# Altium footprint library Power_Part_V1.0.PcbLib: 3 footprints
Each footprint in its own frame and in the unit in brackets; x right, y up, seen from the top. Pads: shape width x height; smd on the part's side, far side on the other; paste and mask are expansions set on the pad; w line width, h text height; cw(c..) or ccw(c..) is an arc to the next point about the centre after c.
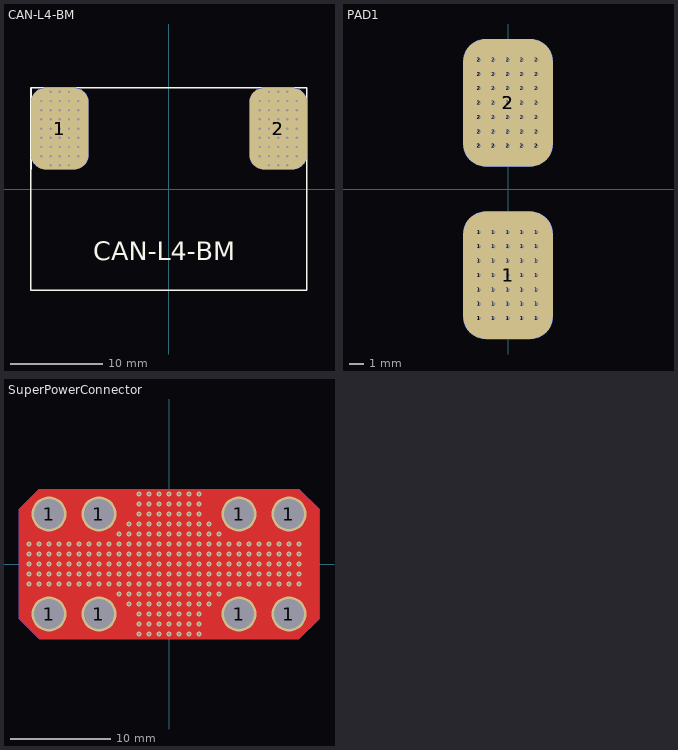
[diagram p0: the footprints below, top view; thin cyan lines are the x and y axes]

## CAN-L4-BM [mil]
pads (124):
  round 20 hole 10: 1(-545.91,140.35) 1(-545.91,140.35) 1(-545.91,140.35) 1(-545.91,140.35) 1(-545.91,179.72) 1(-545.91,179.72) 1(-545.91,219.09) 1(-545.91,219.09) 1(-545.91,258.46) 1(-545.91,258.46) 1(-545.91,297.83) 1(-545.91,297.83) 1(-545.91,337.2) 1(-545.91,337.2) 1(-545.91,376.57) 1(-545.91,376.57) 1(-506.54,100.98) 1(-506.54,100.98) 1(-506.54,140.35) 1(-506.54,140.35) 1(-506.54,179.72) 1(-506.54,219.09) 1(-506.54,258.46) 1(-506.54,297.83) 1(-506.54,337.2) 1(-506.54,376.57) 1(-506.54,415.94) 1(-506.54,415.94) 1(-467.17,100.98) 1(-467.17,100.98) 1(-467.17,140.35) 1(-467.17,140.35) 1(-467.17,179.72) 1(-467.17,219.09) 1(-467.17,258.46) 1(-467.17,297.83) 1(-467.17,337.2) 1(-467.17,376.57) 1(-467.17,415.94) 1(-467.17,415.94) 1(-427.8,100.98) 1(-427.8,100.98) 1(-427.8,140.35) 1(-427.8,140.35) 1(-427.8,179.72) 1(-427.8,219.09) 1(-427.8,258.46) 1(-427.8,297.83) 1(-427.8,337.2) 1(-427.8,376.57) 1(-427.8,415.94) 1(-427.8,415.94) 1(-388.43,140.35) 1(-388.43,140.35) 1(-388.43,179.72) 1(-388.43,219.09) 1(-388.43,258.46) 1(-388.43,297.83) 1(-388.43,337.2) 1(-388.43,376.57) 2(388.98,140.35) 2(388.98,140.35) 2(388.98,140.35) 2(388.98,140.35) 2(388.98,179.72) 2(388.98,179.72) 2(388.98,219.09) 2(388.98,219.09) 2(388.98,258.46) 2(388.98,258.46) 2(388.98,297.83) 2(388.98,297.83) 2(388.98,337.2) 2(388.98,337.2) 2(388.98,376.57) 2(388.98,376.57) 2(428.35,100.98) 2(428.35,100.98) 2(428.35,140.35) 2(428.35,140.35) 2(428.35,179.72) 2(428.35,219.09) 2(428.35,258.46) 2(428.35,297.83) 2(428.35,337.2) 2(428.35,376.57) 2(428.35,415.94) 2(428.35,415.94) 2(467.72,100.98) 2(467.72,100.98) 2(467.72,140.35) 2(467.72,140.35) 2(467.72,179.72) 2(467.72,219.09) 2(467.72,258.46) 2(467.72,297.83) 2(467.72,337.2) 2(467.72,376.57) 2(467.72,415.94) 2(467.72,415.94) 2(507.09,100.98) 2(507.09,100.98) 2(507.09,140.35) 2(507.09,140.35) 2(507.09,179.72) 2(507.09,219.09) 2(507.09,258.46) 2(507.09,297.83) 2(507.09,337.2) 2(507.09,376.57) 2(507.09,415.94) 2(507.09,415.94) 2(546.46,140.35) 2(546.46,140.35) 2(546.46,179.72) 2(546.46,219.09) 2(546.46,258.46) 2(546.46,297.83) 2(546.46,337.2) 2(546.46,376.57)
  rrect50% 245.67x349.21 smd: 1(-467.17,258.46) 2(467.72,258.46)
  rrect50% 245.67x349.21 smd far side: 1(-467.17,258.46) 2(467.72,258.46)
Top Overlay:
  lines w6: -590,83.86 -590,433.07 ; -344.33,433.07 -590,433.07 ; -590.55,433.07 -590,433.07 ; -590.55,433.07 -590.55,-433.07 590.55,-433.07 590.55,433.07 -590.55,433.07
  text "CAN-L4-BM" at -325,-305 h80

## PAD1 [mil]
pads (100):
  round 20 hole 10: 1(-78.74,-354.33) 1(-78.74,-354.33) 1(-78.74,-354.33) 1(-78.74,-354.33) 1(-78.74,-314.96) 1(-78.74,-314.96) 1(-78.74,-275.59) 1(-78.74,-275.59) 1(-78.74,-236.22) 1(-78.74,-236.22) 1(-78.74,-196.85) 1(-78.74,-196.85) 1(-78.74,-157.48) 1(-78.74,-157.48) 1(-78.74,-118.11) 1(-78.74,-118.11) 1(-39.37,-354.33) 1(-39.37,-354.33) 1(-39.37,-314.96) 1(-39.37,-275.59) 1(-39.37,-236.22) 1(-39.37,-196.85) 1(-39.37,-157.48) 1(-39.37,-118.11) 1(0,-354.33) 1(0,-354.33) 1(0,-314.96) 1(0,-275.59) 1(0,-236.22) 1(0,-196.85) 1(0,-157.48) 1(0,-118.11) 1(39.37,-354.33) 1(39.37,-354.33) 1(39.37,-314.96) 1(39.37,-275.59) 1(39.37,-236.22) 1(39.37,-196.85) 1(39.37,-157.48) 1(39.37,-118.11) 1(78.74,-354.33) 1(78.74,-354.33) 1(78.74,-314.96) 1(78.74,-275.59) 1(78.74,-236.22) 1(78.74,-196.85) 1(78.74,-157.48) 1(78.74,-118.11) 2(-78.74,118.11) 2(-78.74,118.11) 2(-78.74,118.11) 2(-78.74,118.11) 2(-78.74,157.48) 2(-78.74,157.48) 2(-78.74,196.85) 2(-78.74,196.85) 2(-78.74,236.22) 2(-78.74,236.22) 2(-78.74,275.59) 2(-78.74,275.59) 2(-78.74,314.96) 2(-78.74,314.96) 2(-78.74,354.33) 2(-78.74,354.33) 2(-39.37,118.11) 2(-39.37,118.11) 2(-39.37,157.48) 2(-39.37,196.85) 2(-39.37,236.22) 2(-39.37,275.59) 2(-39.37,314.96) 2(-39.37,354.33) 2(0,118.11) 2(0,118.11) 2(0,157.48) 2(0,196.85) 2(0,236.22) 2(0,275.59) 2(0,314.96) 2(0,354.33) 2(39.37,118.11) 2(39.37,118.11) 2(39.37,157.48) 2(39.37,196.85) 2(39.37,236.22) 2(39.37,275.59) 2(39.37,314.96) 2(39.37,354.33) 2(78.74,118.11) 2(78.74,118.11) 2(78.74,157.48) 2(78.74,196.85) 2(78.74,236.22) 2(78.74,275.59) 2(78.74,314.96) 2(78.74,354.33)
  rrect50% 245.67x349.21 smd: 1(0,-236.22) 2(0,236.22)
  rrect50% 245.67x349.21 smd far side: 1(0,-236.22) 2(0,236.22)

## SuperPowerConnector [mil]
pads (241):
  round 20 hole 10: 1(-551.18,-78.74) 1(-551.18,-39.37) 1(-551.18,0) 1(-551.18,39.37) 1(-551.18,78.74) 1(-511.81,-78.74) 1(-511.81,-39.37) 1(-511.81,0) 1(-511.81,39.37) 1(-511.81,78.74) 1(-472.44,-78.74) 1(-472.44,-39.37) 1(-472.44,0) 1(-472.44,39.37) 1(-472.44,78.74) 1(-433.07,-78.74) 1(-433.07,-39.37) 1(-433.07,0) 1(-433.07,39.37) 1(-433.07,78.74) 1(-393.7,-78.74) 1(-393.7,-39.37) 1(-393.7,0) 1(-393.7,39.37) 1(-393.7,78.74) 1(-354.33,-78.74) 1(-354.33,-39.37) 1(-354.33,0) 1(-354.33,39.37) 1(-354.33,78.74) 1(-314.96,-78.74) 1(-314.96,-39.37) 1(-314.96,0) 1(-314.96,39.37) 1(-314.96,78.74) 1(-275.59,-78.74) 1(-275.59,-39.37) 1(-275.59,0) 1(-275.59,39.37) 1(-275.59,78.74) 1(-236.22,-78.74) 1(-236.22,-39.37) 1(-236.22,0) 1(-236.22,39.37) 1(-236.22,78.74) 1(-196.85,-118.11) 1(-196.85,-78.74) 1(-196.85,-39.37) 1(-196.85,0) 1(-196.85,39.37) 1(-196.85,78.74) 1(-196.85,118.11) 1(-157.48,-157.48) 1(-157.48,-157.48) 1(-157.48,-118.11) 1(-157.48,-118.11) 1(-157.48,-78.74) 1(-157.48,-78.74) 1(-157.48,-39.37) 1(-157.48,-39.37) 1(-157.48,0) 1(-157.48,0) 1(-157.48,39.37) 1(-157.48,39.37) 1(-157.48,78.74) 1(-157.48,78.74) 1(-157.48,118.11) 1(-157.48,118.11) 1(-157.48,157.48) 1(-157.48,157.48) 1(-118.11,-275.59) 1(-118.11,-236.22) 1(-118.11,-196.85) 1(-118.11,-157.48) 1(-118.11,-118.11) 1(-118.11,-78.74) 1(-118.11,-39.37) 1(-118.11,0) 1(-118.11,39.37) 1(-118.11,78.74) 1(-118.11,118.11) 1(-118.11,157.48) 1(-118.11,196.85) 1(-118.11,236.22) 1(-118.11,275.59) 1(-78.74,-275.59) 1(-78.74,-236.22) 1(-78.74,-196.85) 1(-78.74,-157.48) 1(-78.74,-118.11) 1(-78.74,-78.74) 1(-78.74,-39.37) 1(-78.74,0) 1(-78.74,39.37) 1(-78.74,78.74) 1(-78.74,118.11) 1(-78.74,157.48) 1(-78.74,196.85) 1(-78.74,236.22) 1(-78.74,275.59) 1(-39.37,-275.59) 1(-39.37,-236.22) 1(-39.37,-196.85) 1(-39.37,-157.48) 1(-39.37,-118.11) 1(-39.37,-78.74) 1(-39.37,-39.37) 1(-39.37,0) 1(-39.37,39.37) 1(-39.37,78.74) 1(-39.37,118.11) 1(-39.37,157.48) 1(-39.37,196.85) 1(-39.37,236.22) 1(-39.37,275.59) 1(0,-275.59) 1(0,-236.22) 1(0,-196.85) 1(0,-157.48) 1(0,-118.11) 1(0,-78.74) 1(0,-39.37) 1(0,0) 1(0,39.37) 1(0,78.74) 1(0,118.11) 1(0,157.48) 1(0,196.85) 1(0,236.22) 1(0,275.59) 1(39.37,-275.59) 1(39.37,-236.22) 1(39.37,-196.85) 1(39.37,-157.48) 1(39.37,-118.11) 1(39.37,-78.74) 1(39.37,-39.37) 1(39.37,0) 1(39.37,39.37) 1(39.37,78.74) 1(39.37,118.11) 1(39.37,157.48) 1(39.37,196.85) 1(39.37,236.22) 1(39.37,275.59) 1(78.74,-275.59) 1(78.74,-236.22) 1(78.74,-196.85) 1(78.74,-157.48) 1(78.74,-118.11) 1(78.74,-78.74) 1(78.74,-39.37) 1(78.74,0) 1(78.74,39.37) 1(78.74,78.74) 1(78.74,118.11) 1(78.74,157.48) 1(78.74,196.85) 1(78.74,236.22) 1(78.74,275.59) 1(118.11,-275.59) 1(118.11,-236.22) 1(118.11,-196.85) 1(118.11,-157.48) 1(118.11,-118.11) 1(118.11,-78.74) 1(118.11,-39.37) 1(118.11,0) 1(118.11,39.37) 1(118.11,78.74) 1(118.11,118.11) 1(118.11,157.48) 1(118.11,196.85) 1(118.11,236.22) 1(118.11,275.59) 1(157.48,-157.48) 1(157.48,-118.11) 1(157.48,-78.74) 1(157.48,-39.37) 1(157.48,0) 1(157.48,39.37) 1(157.48,78.74) 1(157.48,118.11) 1(157.48,157.48) 1(196.85,-118.11) 1(196.85,-78.74) 1(196.85,-39.37) 1(196.85,0) 1(196.85,39.37) 1(196.85,78.74) 1(196.85,118.11) 1(236.22,-78.74) 1(236.22,-39.37) 1(236.22,0) 1(236.22,39.37) 1(236.22,78.74) 1(275.59,-78.74) 1(275.59,-39.37) 1(275.59,0) 1(275.59,39.37) 1(275.59,78.74) 1(314.96,-78.74) 1(314.96,-39.37) 1(314.96,0) 1(314.96,39.37) 1(314.96,78.74) 1(354.33,-78.74) 1(354.33,-39.37) 1(354.33,0) 1(354.33,39.37) 1(354.33,78.74) 1(393.7,-78.74) 1(393.7,-39.37) 1(393.7,0) 1(393.7,39.37) 1(393.7,78.74) 1(433.07,-78.74) 1(433.07,-39.37) 1(433.07,0) 1(433.07,39.37) 1(433.07,78.74) 1(472.44,-78.74) 1(472.44,-39.37) 1(472.44,0) 1(472.44,39.37) 1(472.44,78.74) 1(511.81,-78.74) 1(511.81,-39.37) 1(511.81,0) 1(511.81,39.37) 1(511.81,78.74)
  round 137.8 hole 118.11: 1(-472.44,-196.85) 1(-472.44,196.85) 1(-275.59,-196.85) 1(-275.59,196.85) 1(275.59,-196.85) 1(275.59,196.85) 1(472.44,-196.85) 1(472.44,196.85)
  round 1 smd far side: 1(0,0)
  round 1 smd: 1(0,0)
Top Layer:
  region: -511.81,295.28 -590.55,216.54 -590.55,-216.54 -511.81,-295.28 511.81,-295.28 590.55,-216.54 590.55,216.54 511.81,295.28
Bottom Layer:
  region: -511.81,295.28 -590.55,216.54 -590.55,-216.54 -511.81,-295.28 511.81,-295.28 590.55,-216.54 590.55,216.54 511.81,295.28
Mechanical 1:
  circle w0.5: c-472.44,196.85 r59.06
  circle w0.5: c472.44,-196.85 r59.06
  circle w0.5: c275.59,196.85 r59.06
  circle w0.5: c472.44,196.85 r59.06
  circle w0.5: c-275.59,196.85 r59.06
  circle w0.5: c-472.44,-196.85 r59.06
  circle w0.5: c-275.59,-196.85 r59.06
  circle w0.5: c275.59,-196.85 r59.06
  lines w0.5: -590.55,-216.54 -511.81,-295.28 511.81,-295.28 590.55,-216.54 590.55,216.54 511.81,295.28 -511.81,295.28 -590.55,216.54 -590.55,-216.54
3D body "束线器2.STEP": height 157, standoff -0.48, extent -590.55,-295.28 590.55,295.28